# Altium integrated library HO 25-PSP33 footp symb.IntLib: 1 symbol
Pins are listed as number, name and electrical type; pins without a type are passive.

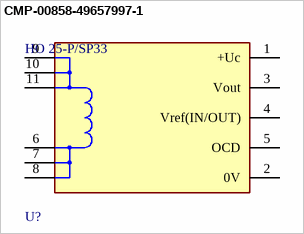
[diagram p0: symbol CMP-00858-49657997-1]

## CMP-00858-49657997-1
designator U?, comment HO 25-P/SP33
HO 25-P/SP33 CURRENT SENSOR, 25A, 3.14VDC-3.46VDC; Sensor Output: Voltage; Supply Voltage DC Min: 3.14V; Max: 3.46V; Current...; NexarPartId: 49657997; Accuracy: 1.4%; Polarity: Bidirectional; Linearity: 0.5%; Number of Channels: 1; Max Supply Current: 25mA; Frequency: 250kHz; Response Time: 3.5µs; Max Supply Voltage (DC): 3.46V; RoHS: Compliant; REACH SVHC: No SVHC; Min Supply Voltage (DC): 3.14V; Min Operating Temperature: -40°C; Max Operating Temperature: 105°C; Current Sensing: 25A; Mount: Through Hole
footprint FP-HO_25-P-SP33-MFG
pins: 1 +Uc (power), 2 0V (power), 3 Vout, 4 Vref(IN/OUT), 5 OCD, 6 IN, 7 IN, 8 IN, 9 OUT, 10 OUT, 11 OUT